# EAGLE library part TPS82671SIPT (library TPS82671SIPT)
600mA Fully Integrated, Low Noise Step-Down Converter Module in MicroSiP™ Package Source: Datasheet <http://www.ti.com/lit/ds/symlink/tps82671.pdf>
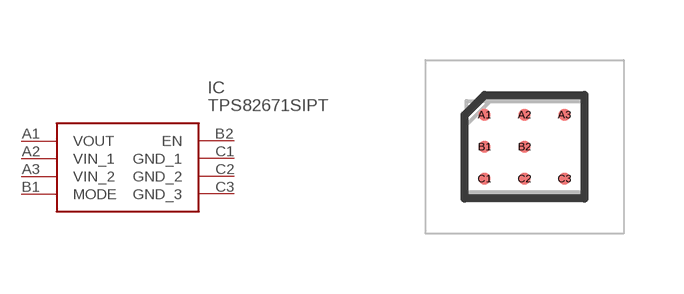
[diagram p0: symbol with the pads of BGA8C80P3X3_290X230X100; footprint BGA8C80P3X3_290X230X100]

Designator prefix IC

## TPS82671SIPT (Description: 600mA Fully Integrated, Low Noise Step-Down Converter Module in MicroSiP&#153; Package; Height: 1mm; Manufacturer_Name: Texas Instruments; Manufacturer_Part_Number: TPS82671SIPT; Mouser_Part_Number: 595-TPS82671SIPT; Mouser_Price-Stock: https://www.mouser.co.uk/ProductDetail/Texas-Instruments/TPS82671SIPT?qs=NiBvnJE4bX2ACa61pPv%252B3g%3D%3D)  [BGA8C80P3X3_290X230X100]
A1  VOUT
A2  VIN_1
A3  VIN_2
B1  MODE
B2  EN
C1  GND_1
C2  GND_2
C3  GND_3

## Footprint BGA8C80P3X3_290X230X100 (pad centres in mm)
SIP (R-uSIP-N8)
smd 0.29 x 0.29: A1 -1,0.8; A2 0,0.8; A3 1,0.8; B1 -1,0; B2 0,0; C1 -1,-0.8; C2 0,-0.8; C3 1,-0.8